# Altium footprint library Components - 24.04.26 - 12.49.PcbLib: 1 footprints
Each footprint in its own frame and in the unit in brackets; x right, y up, seen from the top. Pads: shape width x height; smd on the part's side, far side on the other; paste and mask are expansions set on the pad; w line width, h text height; cw(c..) or ccw(c..) is an arc to the next point about the centre after c.
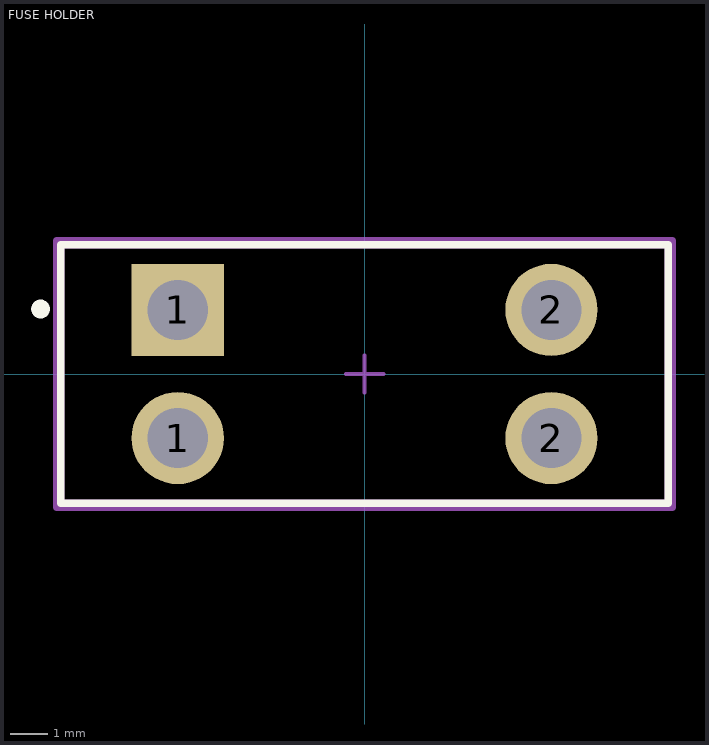
[diagram p0: the footprint, top view; thin cyan lines are the x and y axes]

## FUSE HOLDER [mm]
pads (4):
  round 2.45 hole 1.6 paste-2539.97 mask+0: 1(-4.96,-1.7) 2(4.96,-1.7) 2(4.96,1.7)
  rect 2.45x2.45 hole 1.6 paste-2539.97 mask+0: 1(-4.96,1.7)
Top Overlay:
  circle w0.25: c-8.6,1.725 r0.125
  lines w0.2: -8.065,-3.43 -8.065,3.43 8.065,3.43 8.065,-3.43 -8.065,-3.43
Top Assembly:
  lines w0.2: -8.165,-3.53 -8.165,3.53 8.165,3.53 8.165,-3.53 -8.165,-3.53
  text ".Designator" at 0,0.188 h1
Top 3D Body:
  lines w0.2: -8.065,-3.43 -8.065,3.43 8.065,3.43 8.065,-3.43 -8.065,-3.43
Top Courtyard:
  lines w0.2: -8.165,-3.53 -8.165,3.53 8.165,3.53 8.165,-3.53 -8.165,-3.53
Top Component Center:
  lines w0.1: -0.5,0 0.5,0 ; 0,-0.5 0,0.5
3D body "Fuse_Keystone_3568_eec.STEP": height 0.25, standoff 0, extent -8.165,-3.53 8.165,3.53